# Altium schematic symbol library SCH - MCU - NUVOTON - NUVOTON NUC140LE3CN.SchLib: 1 symbol
Pins are listed as number, name and electrical type; pins without a type are passive.

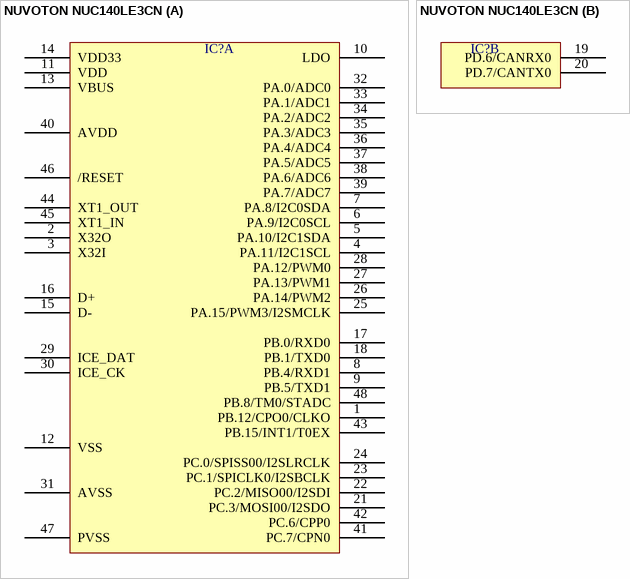
[diagram p0: symbol NUVOTON NUC140LE3CN]

## NUVOTON NUC140LE3CN
designator IC?  (value not drawn)
part A pins: 1 PB.12/CPO0/CLKO, 2 X32O, 3 X32I, 4 PA.11/I2C1SCL, 5 PA.10/I2C1SDA, 6 PA.9/I2C0SCL, 7 PA.8/I2C0SDA, 8 PB.4/RXD1, 9 PB.5/TXD1, 10 LDO, 11 VDD, 12 VSS, 13 VBUS, 14 VDD33, 15 D-, 16 D+, 17 PB.0/RXD0, 18 PB.1/TXD0, 21 PC.3/MOSI00/I2SDO, 22 PC.2/MISO00/I2SDI, 23 PC.1/SPICLK0/I2SBCLK, 24 PC.0/SPISS00/I2SLRCLK, 25 PA.15/PWM3/I2SMCLK, 26 PA.14/PWM2, 27 PA.13/PWM1, 28 PA.12/PWM0, 29 ICE_DAT, 30 ICE_CK, 31 AVSS, 32 PA.0/ADC0, 33 PA.1/ADC1, 34 PA.2/ADC2, 35 PA.3/ADC3, 36 PA.4/ADC4, 37 PA.5/ADC5, 38 PA.6/ADC6, 39 PA.7/ADC7, 40 AVDD, 41 PC.7/CPN0, 42 PC.6/CPP0, 43 PB.15/INT1/T0EX, 44 XT1_OUT, 45 XT1_IN, 46 /RESET, 47 PVSS, 48 PB.8/TM0/STADC
part B pins: 19 PD.6/CANRX0, 20 PD.7/CANTX0